# Altium schematic symbol library H5TC8G63AMR-PBA.Schlib: 1 symbol
Pins are listed as number, name and electrical type; pins without a type are passive.

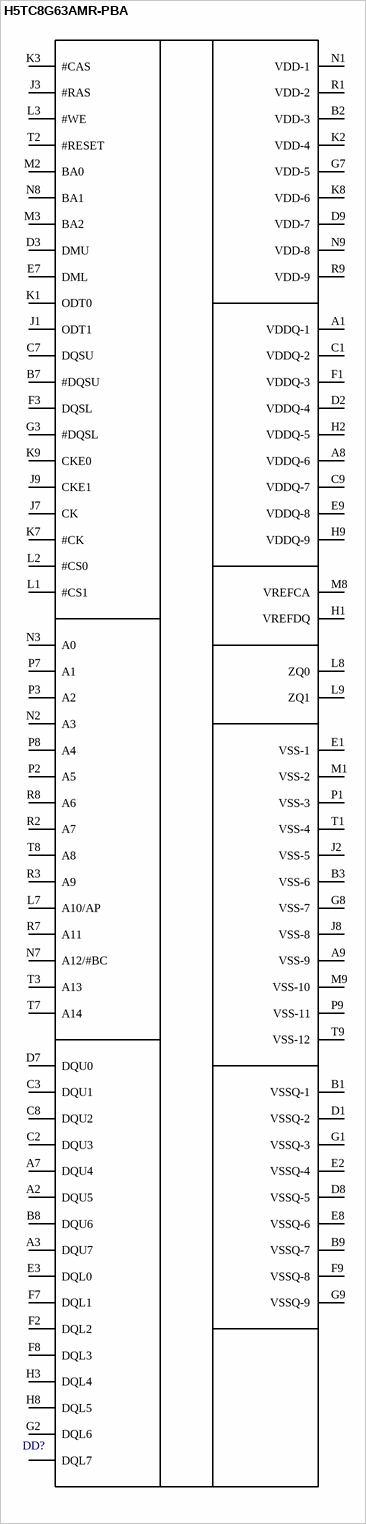
[diagram p0: symbol H5TC8G63AMR-PBA]

## H5TC8G63AMR-PBA
designator DD?
pins: A1 VDDQ-1, A2 DQU5, A3 DQU7, A7 DQU4, A8 VDDQ-6, A9 VSS-9, B1 VSSQ-1, B2 VDD-3, B3 VSS-6, B7 #DQSU, B8 DQU6, B9 VSSQ-7, C1 VDDQ-2, C2 DQU3, C3 DQU1, C7 DQSU, C8 DQU2, C9 VDDQ-7, D1 VSSQ-2, D2 VDDQ-4, D3 DMU, D7 DQU0, D8 VSSQ-5, D9 VDD-7, E1 VSS-1, E2 VSSQ-4, E3 DQL0, E7 DML, E8 VSSQ-6, E9 VDDQ-8, F1 VDDQ-3, F2 DQL2, F3 DQSL, F7 DQL1, F8 DQL3, F9 VSSQ-8, G1 VSSQ-3, G2 DQL6, G3 #DQSL, G7 VDD-5, G8 VSS-7, G9 VSSQ-9, H1 VREFDQ, H2 VDDQ-5, H3 DQL4, H7 DQL7, H8 DQL5, H9 VDDQ-9, J1 ODT1, J2 VSS-5, J3 #RAS, J7 CK, J8 VSS-8, J9 CKE1, K1 ODT0, K2 VDD-4, K3 #CAS, K7 #CK, K8 VDD-6, K9 CKE0, L1 #CS1, L2 #CS0, L3 #WE, L7 A10/AP, L8 ZQ0, L9 ZQ1, M1 VSS-2, M2 BA0, M3 BA2, M8 VREFCA, M9 VSS-10, N1 VDD-1, N2 A3, N3 A0, N7 A12/#BC, N8 BA1, N9 VDD-8, P1 VSS-3, P2 A5, P3 A2, P7 A1, P8 A4, P9 VSS-11, R1 VDD-2, R2 A7, R3 A9, R7 A11, R8 A6, R9 VDD-9, T1 VSS-4, T2 #RESET, T3 A13, T7 A14, T8 A8, T9 VSS-12